# Altium footprint library TAJA106K006RNJ.PcbLib: 3 footprints
Each footprint in its own frame and in the unit in brackets; x right, y up, seen from the top. Pads: shape width x height; smd on the part's side, far side on the other; paste and mask are expansions set on the pad; w line width, h text height; cw(c..) or ccw(c..) is an arc to the next point about the centre after c.
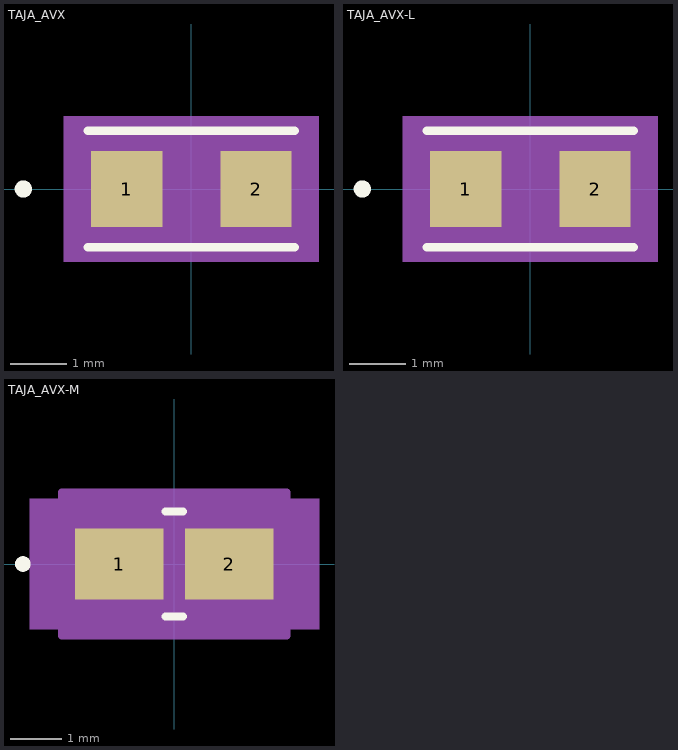
[diagram p0: the footprints below, top view; thin cyan lines are the x and y axes]

## TAJA_AVX [mil]
pads (2):
  rect 49.68x53.03 smd paste+0 mask+0: 1(-44.92,0) 2(44.92,0)
Top Overlay:
  circle w6: c-117,0 r3
  lines w6: -72,-40.5 72,-40.5 ; -72,40.5 72,40.5
Mechanical 5:
  region: 88.76,-50.5 -88.76,-50.5 -88.76,50.5 88.76,50.5
Mechanical 13:
  circle w0: c-57,0 r3
  lines w1: -67,-35.5 67,-35.5 67,35.5 -67,35.5 -67,-35.5
Mechanical 15:
  region: -71,-30.52 -73.76,-30.52 -73.76,30.52 -71,30.52 -71,39.5 71,39.5 71,30.52 73.76,30.52 73.76,-30.52 71,-30.52 71,-39.5 -71,-39.5
  lines w6: -73.76,-30.52 -73.76,30.52 -71,30.52 -71,39.5 71,39.5 71,30.52 73.76,30.52 73.76,-30.52 71,-30.52 71,-39.5 -71,-39.5 -71,-30.52 -73.76,-30.52
3D body "TAJA_AVX.step": height 72.99, standoff 0, extent -67.01,-35.51 67.01,35.51

## TAJA_AVX-L [mil]
pads (2):
  rect 49.68x53.03 smd paste+0 mask+0: 1(-44.92,0) 2(44.92,0)
Top Overlay:
  circle w6: c-117,0 r3
  lines w6: -72,-40.5 72,-40.5 ; -72,40.5 72,40.5
Mechanical 5:
  region: 88.76,-50.5 -88.76,-50.5 -88.76,50.5 88.76,50.5
Mechanical 13:
  circle w0: c-57,0 r3
  lines w1: -67,-35.5 67,-35.5 67,35.5 -67,35.5 -67,-35.5
Mechanical 15:
  region: -71,-30.52 -73.76,-30.52 -73.76,30.52 -71,30.52 -71,39.5 71,39.5 71,30.52 73.76,30.52 73.76,-30.52 71,-30.52 71,-39.5 -71,-39.5
  lines w6: -73.76,-30.52 -73.76,30.52 -71,30.52 -71,39.5 71,39.5 71,30.52 73.76,30.52 73.76,-30.52 71,-30.52 71,-39.5 -71,-39.5 -71,-30.52 -73.76,-30.52
3D body "TAJA_AVX.step": height 72.99, standoff 0, extent -67.01,-35.51 67.01,35.51

## TAJA_AVX-M [mil]
pads (2):
  rect 68.53x55 smd paste+0 mask+0: 1(-42.58,0) 2(42.58,0)
Top Overlay:
  circle w6: c-117,0 r3
  lines w6: -6.7,-40.5 6.7,-40.5 ; -6.7,40.5 6.7,40.5
Mechanical 5:
  region: 111.84,-50.5 -111.84,-50.5 -111.84,50.5 111.84,50.5
Mechanical 13:
  circle w0: c-57,0 r3
  lines w1: -67,-35.5 67,-35.5 67,35.5 -67,35.5 -67,-35.5
Mechanical 15:
  region: -87,-47.5 -96.84,-47.5 -96.84,47.5 -87,47.5 -87,55.5 87,55.5 87,47.5 96.84,47.5 96.84,-47.5 87,-47.5 87,-55.5 -87,-55.5
  lines w6: -96.84,-47.5 -96.84,47.5 -87,47.5 -87,55.5 87,55.5 87,47.5 96.84,47.5 96.84,-47.5 87,-47.5 87,-55.5 -87,-55.5 -87,-47.5 -96.84,-47.5
3D body "TAJA_AVX.step": height 72.99, standoff 0, extent -67.01,-35.51 67.01,35.51